# Altium footprint library XTAL_NX5032GA-8.000M-STD-CSU-1.PcbLib: 1 footprints
Each footprint in its own frame and in the unit in brackets; x right, y up, seen from the top. Pads: shape width x height; smd on the part's side, far side on the other; paste and mask are expansions set on the pad; w line width, h text height; cw(c..) or ccw(c..) is an arc to the next point about the centre after c.
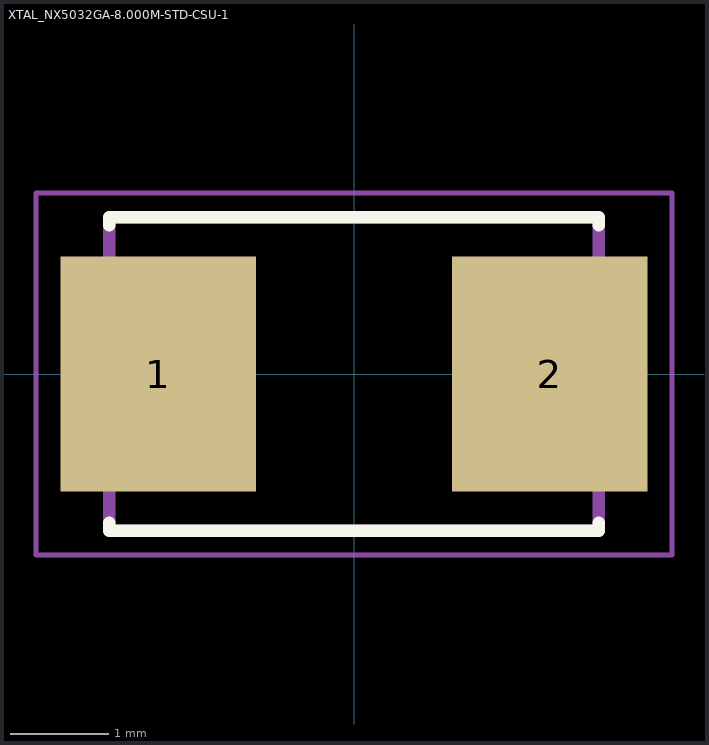
[diagram p0: the footprint, top view; thin cyan lines are the x and y axes]

## XTAL_NX5032GA-8.000M-STD-CSU-1 [mm]
pads (2):
  rect 2x2.4 smd: 1(-2,0) 2(2,0)
Top Overlay:
  lines w0.127: -2.5,-1.52 -2.5,-1.6 2.5,-1.6 2.5,-1.52 ; -2.5,1.52 -2.5,1.6 2.5,1.6 2.5,1.52
Mechanical 13:
  lines w0.127: -2.5,-1.6 -2.5,1.6 2.5,1.6 2.5,-1.6 -2.5,-1.6
Mechanical 15:
  lines w0.05: -3.25,-1.85 -3.25,1.85 3.25,1.85 3.25,-1.85 -3.25,-1.85
3D body "step_temp.STEP": height 1.5, standoff 0, extent -2.5,-1.6 2.5,1.6